# EAGLE library part CM108 (library BaseApp)
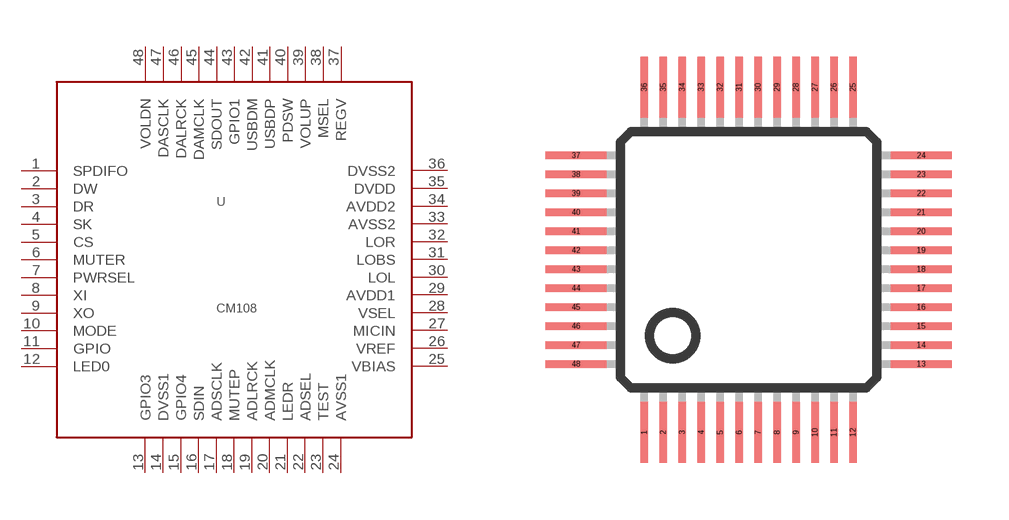
[diagram p80: symbol with the pads of 48LQFP; footprint 48LQFP]

Designator prefix -

## CM108  [48LQFP]
1  SPDIFO
2  DW
3  DR
4  SK
5  CS
6  MUTER
7  PWRSEL
8  XI
9  XO
10  MODE
11  GPIO
12  LED0
13  GPIO3
14  DVSS1
15  GPIO4
16  SDIN
17  ADSCLK
18  MUTEP
19  ADLRCK
20  ADMCLK
21  LEDR
22  ADSEL
23  TEST
24  AVSS1
25  VBIAS
26  VREF
27  MICIN
28  VSEL
29  AVDD1
30  LOL
31  LOBS
32  LOR
33  AVSS2
34  AVDD2
35  DVDD
36  DVSS2
37  REGV
38  MSEL
39  VOLUP
40  PDSW
41  USBDP
42  USBDM
43  GPIO1
44  SDOUT
45  DAMCLK
46  DALRCK
47  DASCLK
48  VOLDN

## Footprint 48LQFP (pad centres in mm)
smd 0.2 x 1.6: 1 -2.75,-4.55; 2 -2.25,-4.55; 3 -1.75,-4.55; 4 -1.25,-4.55; 5 -0.75,-4.55; 6 -0.25,-4.55; 7 0.25,-4.55; 8 0.75,-4.55; 9 1.25,-4.55; 10 1.75,-4.55; 11 2.25,-4.55; 12 2.75,-4.55; 25 2.75,4.55; 26 2.25,4.55; 27 1.75,4.55; 28 1.25,4.55; 29 0.75,4.55; 30 0.25,4.55; 31 -0.25,4.55; 32 -0.75,4.55; 33 -1.25,4.55; 34 -1.75,4.55; 35 -2.25,4.55; 36 -2.75,4.55
smd 1.6 x 0.2: 13 4.55,-2.75; 14 4.55,-2.25; 15 4.55,-1.75; 16 4.55,-1.25; 17 4.55,-0.75; 18 4.55,-0.25; 19 4.55,0.25; 20 4.55,0.75; 21 4.55,1.25; 22 4.55,1.75; 23 4.55,2.25; 24 4.55,2.75; 37 -4.55,2.75; 38 -4.55,2.25; 39 -4.55,1.75; 40 -4.55,1.25; 41 -4.55,0.75; 42 -4.55,0.25; 43 -4.55,-0.25; 44 -4.55,-0.75; 45 -4.55,-1.25; 46 -4.55,-1.75; 47 -4.55,-2.25; 48 -4.55,-2.75